# Altium schematic symbol library Connectors.SchLib: 13 symbols
Pins are listed as number, name and electrical type; pins without a type are passive.

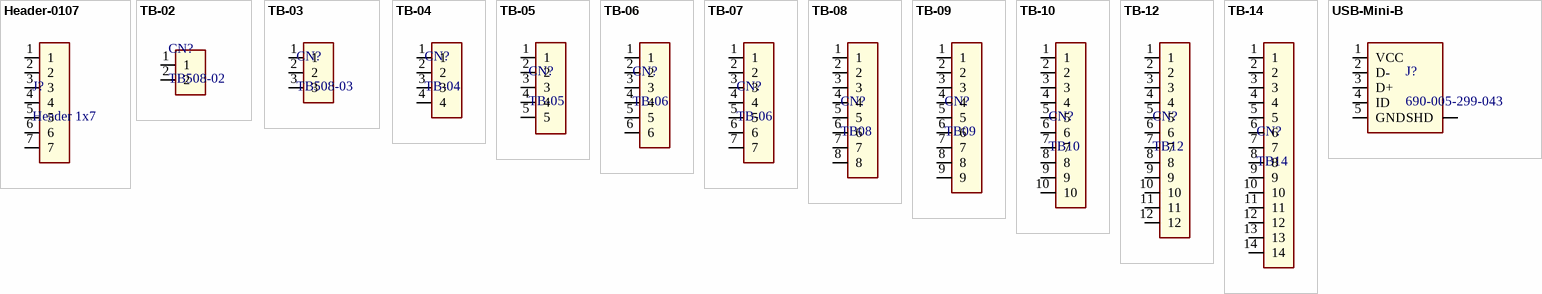
[diagram p0: symbols Header-0107 to USB-Mini-B]

## Header-0107
designator J?, comment Header 1x7
Rectangular Header; Value: Header 1x7; Part number: *; Manufacturer: *; Unit price: *
footprint Header-254-0107 (Rectangular header - Male pines 1x7 - 2.54mm pitch)
pins: 1, 2, 3, 4, 5, 6, 7

## TB-02
designator CN?, comment TB508-02
Terminal Block; Manufacturer: *; Part number: *; Unit price: *; Value: TB508-02
footprint TB508-02 (Vertical terminal block 0.2 inch (5.08mm) pitch)
footprint TB508V-02 (Vertical terminal block 0.2 inch (5.08mm) pitch)
footprint TBB953-02 (Vertical barrier terminal block 9.53mm pitch)
footprint TB762H-02 (Horizontal Terminal Block - PCB)
footprint TB762-02 (Vertical terminal block 7.62mm pitch)
footprint TB762A-02 (Angled terminal block 7.62mm pitch - 2 pines)
footprint TB750H-02 (Terminal block 7.50mm pitch)
footprint TB500-02 (Vertical terminal block 5.00mm pitch)
pins: 1, 2

## TB-03
designator CN?, comment TB508-03
Terminal Block; Manufacturer: *; Part number: *; Unit price: *; Value: TB508-03
footprint TB35H-03 (Vertical terminal block)
footprint TB35V-03 (Vertical terminal block)
footprint TB508-03 (Vertical terminal block 0.2 inch (5.08mm) pitch)
footprint TB350-03L (Horizontal terminal block - Wire to board - TE 284391)
footprint TB750-03-S (Vertical terminal block 7.50mm pitch)
footprint TB508V-03 (Vertical terminal block 0.2 inch (5.08mm) pitch)
footprint TBB953-03 (Vertical barrier terminal block 9.53mm pitch)
footprint TB381V-03 (Vertical terminal block 3.81mm)
footprint TB500-03 (Vertical terminal block 5.00mm pitch)
footprint TB508H-03 (Vertical terminal block 5.08mm pitch)
pins: 1, 2, 3

## TB-04
designator CN?
Terminal Block; Manufacturer: *; Part number: *; Unit price: *; Value: TB-04
footprint TB35H-04 (Vertical terminal block)
footprint TB35V-04 (Vertical terminal block)
footprint TB350-04 (Horizontal terminal block - Wire to board)
footprint TB350-04L (Horizontal terminal block - Wire to board - TE 284391)
footprint TB381V-04 (Vertical terminal block 3.81mm)
footprint TB508-04 (Vertical terminal block 0.2 inch (5.08mm) pitch)
footprint TB381V-04-WB (Vertical terminal block 3.81mm - Wire to Board)
footprint TB500-04 (Vertical terminal block 5.00mm pitch)
pins: 1, 2, 3, 4

## TB-05
designator CN?
Terminal Block; Manufacturer: *; Part number: *; Unit price: *; Value: TB-05
footprint TB35H-05 (Vertical terminal block)
footprint TB35V-05 (Vertical terminal block)
footprint TB254-05 (Horizontal terminal block - 2.54mm)
footprint TB350-05 (Horizontal terminal block - Wire to board)
footprint TB508-05 (Vertical terminal block 0.2 inch (5.08mm) pitch)
footprint TB350-05L (Horizontal terminal block - Wire to board - TE 284391)
footprint TB508A-05 (Angled terminal block 0.2 inch (5.08mm) pitch)
footprint TB381V-05-W (Wire connection 3.81mm)
footprint TB381V-05-WB (Vertical terminal block 3.81mm - Wire to Board)
footprint TB500-05 (Vertical terminal block 5.00mm pitch)
pins: 1, 2, 3, 4, 5

## TB-06
designator CN?
Terminal Block; Manufacturer: *; Part number: *; Unit price: *; Value: TB-06
footprint TB35H-06 (Vertical terminal block)
footprint TB35V-06 (Vertical terminal block)
footprint TB381V-06 (Vertical terminal block 3.81mm)
footprint TB381V-06-WB (Vertical terminal block 3.81mm - Wire to Board)
footprint TB500H-06 (Vertical terminal block 5.00mm pitch)
footprint TB500-06 (Vertical terminal block 5.00mm pitch)
pins: 1, 2, 3, 4, 5, 6

## TB-07
designator CN?, comment TB-06
Terminal Block; Manufacturer: *; Part number: *; Value: TB-06; Unit price: *
footprint TB254-07 (Horizontal terminal block - 2.54mm)
footprint TB500-07 (Vertical terminal block 5.00mm pitch)
pins: 1, 2, 3, 4, 5, 6, 7

## TB-08
designator CN?, comment TB08
Terminal Block; Manufacturer: *; Part number: *; Value: TB08; Unit price: *
footprint TB381V-08-WB (Vertical terminal block 3.81mm - Wire to Board)
footprint PHOENIX-UEG20-08-2790211 (Phoenix Contact - 2790211 - Enclosures, Boxes, & Cases ELECT. HOUSING)
footprint TB500H-08 (Vertical terminal block 5.00mm pitch)
footprint TB500-08 (Vertical terminal block 5.00mm pitch)
footprint TB508-08 (Vertical terminal block 0.2 inch (5.08mm) pitch)
pins: 1, 2, 3, 4, 5, 6, 7, 8

## TB-09
designator CN?, comment TB09
Terminal Block; Manufacturer: *; Part number: *; Value: TB09; Unit price: *
footprint TB750-09-S-FC (Vertical terminal block 7.50mm pitch. Field Control)
footprint TB500-09 (Vertical terminal block 5.00mm pitch)
pins: 1, 2, 3, 4, 5, 6, 7, 8, 9

## TB-10
designator CN?, comment TB10
Terminal Block; Manufacturer: *; Part number: *; Value: TB10; Unit price: *
footprint TB381V-10 (Vertical terminal block 3.81mm)
footprint TB500-10 (Vertical terminal block 5.00mm pitch)
pins: 1, 2, 3, 4, 5, 6, 7, 8, 9, 10

## TB-12
designator CN?, comment TB12
Terminal Block; Manufacturer: *; Part number: *; Value: TB12; Unit price: *
footprint TB500H-12 (Vertical terminal block 5.00mm pitch)
footprint TB508V-12 (Vertical terminal block 0.2 inch (5.08mm) pitch)
footprint TB508-12 (Vertical terminal block 0.2 inch (5.08mm) pitch)
pins: 1, 2, 3, 4, 5, 6, 7, 8, 9, 10, 11, 12

## TB-14
designator CN?, comment TB14
Terminal Block; Manufacturer: *; Part number: *; Value: TB14; Unit price: *
footprint TB381V-14 (Vertical terminal block 3.81mm)
pins: 1, 2, 3, 4, 5, 6, 7, 8, 9, 10, 11, 12, 13, 14

## USB-Mini-B
designator J?, comment 690-005-299-043
CONN RCPT USB2.0 MINI B SMD R/A; Manufacturer: *; Part number: *; Unit price: *; Value: 690-005-299-043
footprint USB-Mini (CONN RCPT USB2.0 MINI B SMD R/A)
pins: 1 VCC, 2 D-, 3 D+, 4 ID, 5 GND, SHD